# EAGLE library part ATTINY85 (library Tristan_Robitaille's_Library)
ATtiny85 Atmel 8-bit AVR Microcontroller with 4K Bytes In-System Programmable Flash Technical specifications: Frequency: 10MHz max. Supply voltage range: 1.8V - 5.5V Current draw: 300 µA @ 1.8V and 1MHz Power-down current draw: 0.1 µA @ 1.8V Datasheet <http://www.atmel.com/Images/Atmel-2586-AVR-8-bit-Microcontroller-ATtiny25-ATtiny45-ATtiny85_Datasheet-Summary.pdf> Digi-Key part #: ATTINY45V-10SU-ND <http://www.digikey.ca/product-detail/en/atmel/ATTINY45V-10SU/ATTINY45V-10SU-ND/735468> Mouser part #: 556-ATTINY45V10SU <http://ca.mouser.com/ProductDetail/Atmel/ATtiny45V-10SU/?qs=sGAEpiMZZMvqv2n3s2xjsVIKSdqlAUq6idazWt2eUXE%3d> Manufacturer part #: ATtiny45V-10SU
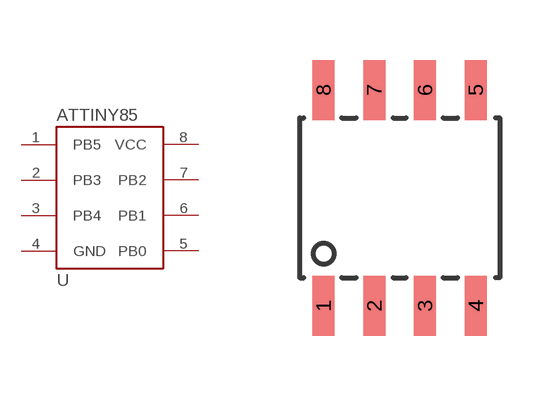
[diagram p21: symbol with the pads of SOIC8; footprint SOIC8]

Designator prefix U

## ATTINY85 (DIGIKEY#: ATTINY45V-10SU-ND; MANF: ATMEL ATTINY85; MANF#: ATtiny45V-10SU; MOUSER#: 556-ATTINY45V10SU)  [SOIC8]
1  PB5
2  PB3
3  PB4
4  GND  pwr
5  PB0
6  PB1
7  PB2
8  VCC  pwr

## Footprint SOIC8 (pad centres in mm)
Small Outline IC
smd 0.55 x 1.5: 1 -1.905,-2.7; 2 -0.635,-2.7; 3 0.635,-2.7; 4 1.905,-2.7; 5 1.905,2.7; 6 0.635,2.7; 7 -0.635,2.7; 8 -1.905,2.7